# Altium footprint library IC.PcbLib: 31 footprints (part 2 of 2)
Each footprint in its own frame and in the unit in brackets; x right, y up, seen from the top. Pads: shape width x height; smd on the part's side, far side on the other; paste and mask are expansions set on the pad; w line width, h text height; cw(c..) or ccw(c..) is an arc to the next point about the centre after c.
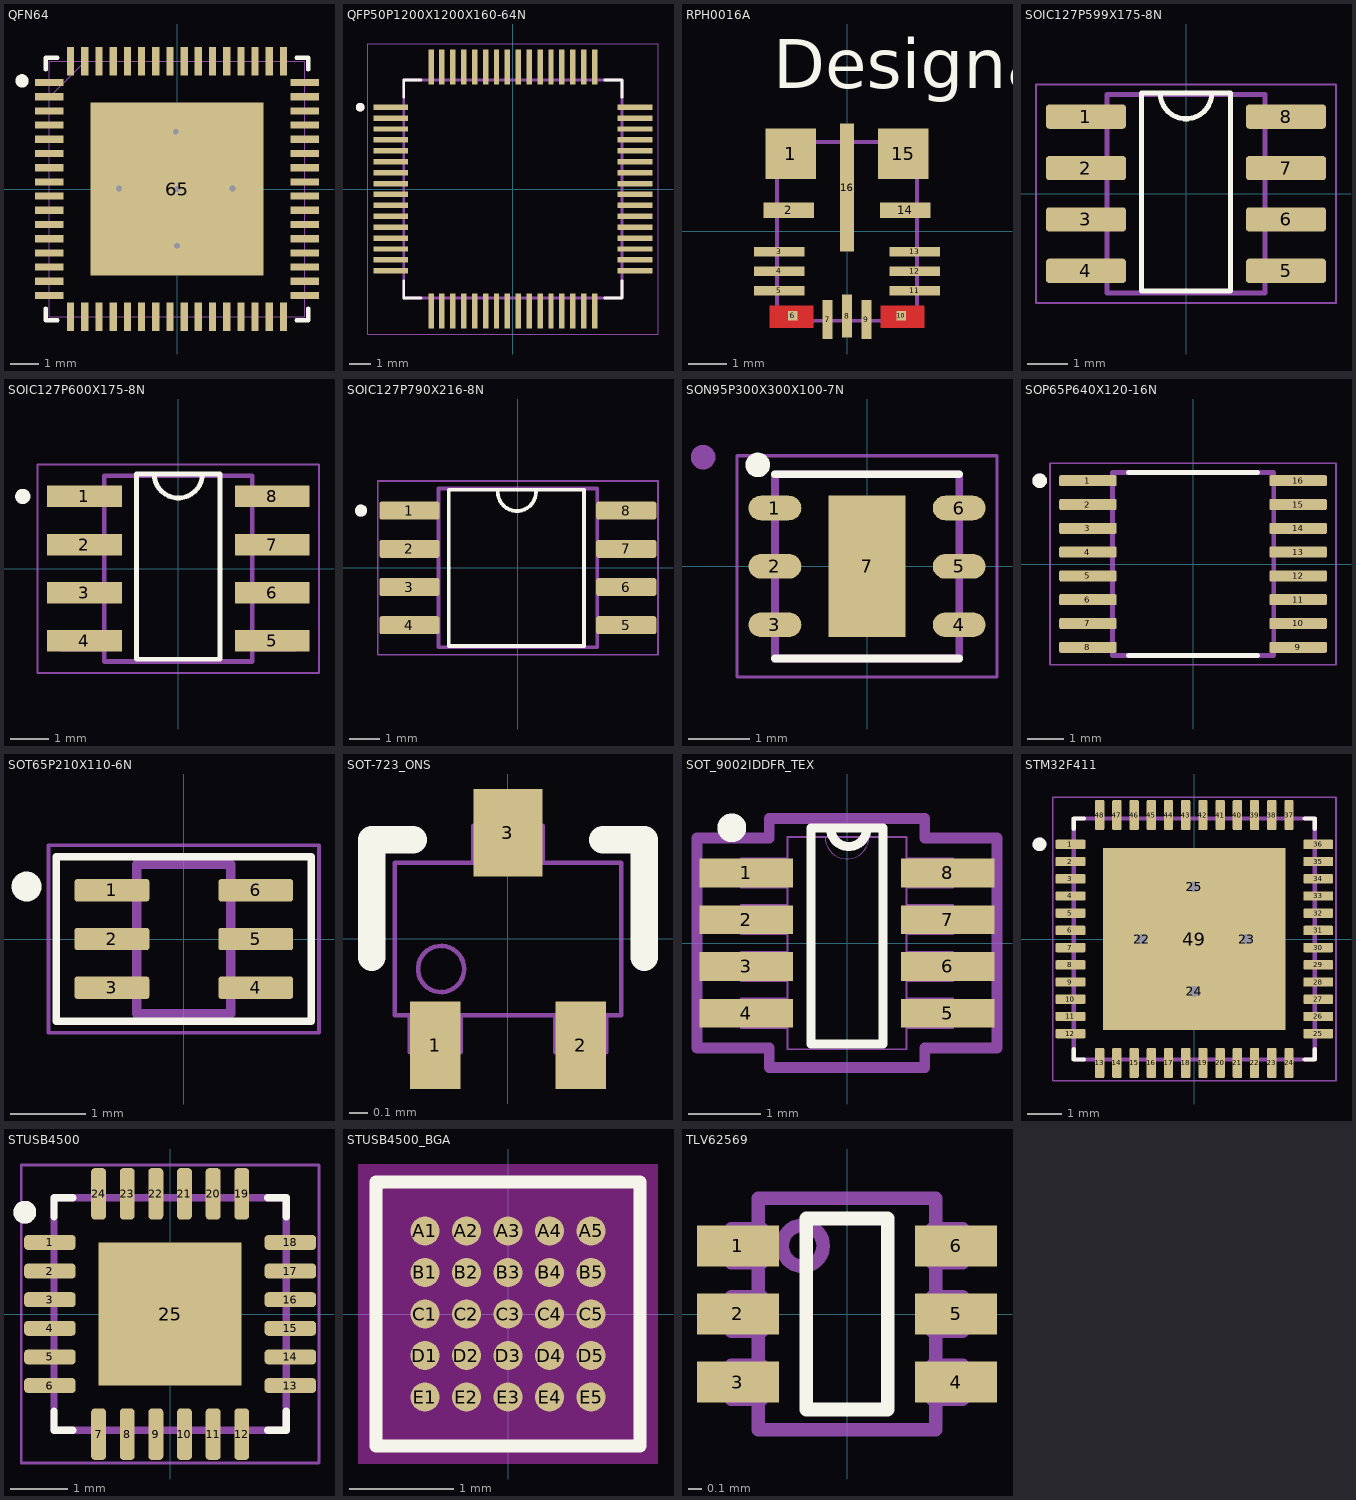
[diagram p1: the footprints below, top view; thin cyan lines are the x and y axes]

## QFN64 [mm]
pads (65):
  rect 1x0.255 smd paste+0 mask+0: 1(-4.5,3.75) 2(-4.5,3.25) 3(-4.5,2.75) 4(-4.5,2.25) 5(-4.5,1.75) 6(-4.5,1.25) 7(-4.5,0.75) 8(-4.5,0.25) 9(-4.5,-0.25) 10(-4.5,-0.75) 11(-4.5,-1.25) 12(-4.5,-1.75) 13(-4.5,-2.25) 14(-4.5,-2.75) 15(-4.5,-3.25) 16(-4.5,-3.75) 33(4.5,-3.75) 34(4.5,-3.25) 35(4.5,-2.75) 36(4.5,-2.25) 37(4.5,-1.75) 38(4.5,-1.25) 39(4.5,-0.75) 40(4.5,-0.25) 41(4.5,0.25) 42(4.5,0.75) 43(4.5,1.25) 44(4.5,1.75) 45(4.5,2.25) 46(4.5,2.75) 47(4.5,3.25) 48(4.5,3.75)
  rect 0.255x1 smd paste+0 mask+0: 17(-3.75,-4.5) 18(-3.25,-4.5) 19(-2.75,-4.5) 20(-2.25,-4.5) 21(-1.75,-4.5) 22(-1.25,-4.5) 23(-0.75,-4.5) 24(-0.25,-4.5) 25(0.25,-4.5) 26(0.75,-4.5) 27(1.25,-4.5) 28(1.75,-4.5) 29(2.25,-4.5) 30(2.75,-4.5) 31(3.25,-4.5) 32(3.75,-4.5) 49(3.75,4.5) 50(3.25,4.5) 51(2.75,4.5) 52(2.25,4.5) 53(1.75,4.5) 54(1.25,4.5) 55(0.75,4.5) 56(0.25,4.5) 57(-0.25,4.5) 58(-0.75,4.5) 59(-1.25,4.5) 60(-1.75,4.5) 61(-2.25,4.5) 62(-2.75,4.5) 63(-3.25,4.5) 64(-3.75,4.5)
  rect 6.096x6.096 smd paste-3.048 mask+0: 65(0,0)
via 0,0 diameter 0.503 hole 0.203
via 0,-2 diameter 0.503 hole 0.203
via -0.047,2.014 diameter 0.503 hole 0.203
via 1.953,0.014 diameter 0.503 hole 0.203
via -2.047,0.014 diameter 0.503 hole 0.203
Top Overlay:
  circle w0.254: c-5.461,3.81 r0.107
  lines w0.152: -4.623,-4.21 -4.623,-4.623 -4.21,-4.623 ; -4.623,4.21 -4.623,4.623 -4.21,4.623 ; 4.21,-4.623 4.623,-4.623 4.623,-4.21 ; 4.21,4.623 4.623,4.623 4.623,4.21
Top Paste:
  region: -1.624,2.948 -2.948,2.948 -2.948,1.624 -1.624,1.624
  region: -1.624,1.424 -2.948,1.424 -2.948,0.1 -1.624,0.1
  region: -1.624,-0.1 -2.948,-0.1 -2.948,-1.424 -1.624,-1.424
  region: -1.624,-1.624 -2.948,-1.624 -2.948,-2.948 -1.624,-2.948
  region: -0.1,2.948 -1.424,2.948 -1.424,1.624 -0.1,1.624
  region: -0.1,1.424 -1.424,1.424 -1.424,0.1 -0.1,0.1
  region: -0.1,-0.1 -1.424,-0.1 -1.424,-1.424 -0.1,-1.424
  region: -0.1,-1.624 -1.424,-1.624 -1.424,-2.948 -0.1,-2.948
  region: 1.424,2.948 0.1,2.948 0.1,1.624 1.424,1.624
  region: 1.424,1.424 0.1,1.424 0.1,0.1 1.424,0.1
  region: 1.424,-0.1 0.1,-0.1 0.1,-1.424 1.424,-1.424
  region: 1.424,-1.624 0.1,-1.624 0.1,-2.948 1.424,-2.948
  region: 2.948,2.948 1.624,2.948 1.624,1.624 2.948,1.624
  region: 2.948,1.424 1.624,1.424 1.624,0.1 2.948,0.1
  region: 2.948,-0.1 1.624,-0.1 1.624,-1.424 2.948,-1.424
  region: 2.948,-1.624 1.624,-1.624 1.624,-2.948 2.948,-2.948
Mechanical 13:
  lines w0.025: -4.496,3.226 -3.226,4.496 ; -4.496,-4.496 4.496,-4.496 4.496,4.496 -4.496,4.496 -4.496,-4.496 ; -4.496,-3.902 -4.496,-3.598 -4.496,-3.902 ; -4.496,-3.402 -4.496,-3.098 -4.496,-3.402 ; -4.496,-2.902 -4.496,-2.598 -4.496,-2.902 ; -4.496,-2.402 -4.496,-2.098 -4.496,-2.402 ; -4.496,-1.902 -4.496,-1.598 -4.496,-1.902 ; -4.496,-1.402 -4.496,-1.098 -4.496,-1.402 ; -4.496,-0.902 -4.496,-0.598 -4.496,-0.902 ; -4.496,-0.402 -4.496,-0.098 -4.496,-0.402 ; -4.496,0.098 -4.496,0.402 -4.496,0.098 ; -4.496,0.598 -4.496,0.902 -4.496,0.598 ; -4.496,1.098 -4.496,1.402 -4.496,1.098 ; -4.496,1.598 -4.496,1.902 -4.496,1.598 ; -4.496,2.098 -4.496,2.402 -4.496,2.098 ; -4.496,2.598 -4.496,2.902 -4.496,2.598 ; -4.496,3.098 -4.496,3.402 -4.496,3.098 ; -4.496,3.598 -4.496,3.902 -4.496,3.598 ; -3.902,-4.496 -3.598,-4.496 -3.902,-4.496 ; -3.902,4.496 -3.598,4.496 -3.902,4.496 ; -3.402,-4.496 -3.098,-4.496 -3.402,-4.496 ; -3.402,4.496 -3.098,4.496 -3.402,4.496 ; -2.902,-4.496 -2.598,-4.496 -2.902,-4.496 ; -2.902,4.496 -2.598,4.496 -2.902,4.496 ; -2.402,-4.496 -2.098,-4.496 -2.402,-4.496 ; -2.402,4.496 -2.098,4.496 -2.402,4.496 ; -1.902,-4.496 -1.598,-4.496 -1.902,-4.496 ; -1.902,4.496 -1.598,4.496 -1.902,4.496 ; -1.402,-4.496 -1.098,-4.496 -1.402,-4.496 ; -1.402,4.496 -1.098,4.496 -1.402,4.496 ; -0.902,-4.496 -0.598,-4.496 -0.902,-4.496 ; -0.902,4.496 -0.598,4.496 -0.902,4.496 ; -0.402,-4.496 -0.098,-4.496 -0.402,-4.496 ; -0.402,4.496 -0.098,4.496 -0.402,4.496 ; 0.098,-4.496 0.402,-4.496 0.098,-4.496 ; 0.098,4.496 0.402,4.496 0.098,4.496 ; 0.598,-4.496 0.902,-4.496 0.598,-4.496 ; 0.598,4.496 0.902,4.496 0.598,4.496 ; 1.098,-4.496 1.402,-4.496 1.098,-4.496 ; 1.098,4.496 1.402,4.496 1.098,4.496 ; 1.598,-4.496 1.902,-4.496 1.598,-4.496 ; 1.598,4.496 1.902,4.496 1.598,4.496 ; 2.098,-4.496 2.402,-4.496 2.098,-4.496 ; 2.098,4.496 2.402,4.496 2.098,4.496 ; 2.598,-4.496 2.902,-4.496 2.598,-4.496 ; 2.598,4.496 2.902,4.496 2.598,4.496 ; 3.098,-4.496 3.402,-4.496 3.098,-4.496 ; 3.098,4.496 3.402,4.496 3.098,4.496 ; 3.598,-4.496 3.902,-4.496 3.598,-4.496 ; 3.598,4.496 3.902,4.496 3.598,4.496 ; 4.496,-3.902 4.496,-3.598 4.496,-3.902 ; 4.496,-3.402 4.496,-3.098 4.496,-3.402 ; 4.496,-2.902 4.496,-2.598 4.496,-2.902 ; 4.496,-2.402 4.496,-2.098 4.496,-2.402 ; 4.496,-1.902 4.496,-1.598 4.496,-1.902 ; 4.496,-1.402 4.496,-1.098 4.496,-1.402 ; 4.496,-0.902 4.496,-0.598 4.496,-0.902 ; 4.496,-0.402 4.496,-0.098 4.496,-0.402 ; 4.496,0.098 4.496,0.402 4.496,0.098 ; 4.496,0.598 4.496,0.902 4.496,0.598 ; 4.496,1.098 4.496,1.402 4.496,1.098 ; 4.496,1.598 4.496,1.902 4.496,1.598 ; 4.496,2.098 4.496,2.402 4.496,2.098 ; 4.496,2.598 4.496,2.902 4.496,2.598 ; 4.496,3.098 4.496,3.402 4.496,3.098 ; 4.496,3.598 4.496,3.902 4.496,3.598
3D body "QFN64_ML_MCH.step": height 0.99, standoff 0, extent -4.496,-4.496 4.496,4.496

## QFP50P1200X1200X160-64N [mm]
height 1.6
pads (64):
  rect 1.6x0.25 smd mask+0.05: 1(-5.6,3.75) 2(-5.6,3.25) 3(-5.6,2.75) 4(-5.6,2.25) 5(-5.6,1.75) 6(-5.6,1.25) 7(-5.6,0.75) 8(-5.6,0.25) 9(-5.6,-0.25) 10(-5.6,-0.75) 11(-5.6,-1.25) 12(-5.6,-1.75) 13(-5.6,-2.25) 14(-5.6,-2.75) 15(-5.6,-3.25) 16(-5.6,-3.75) 33(5.6,-3.75) 34(5.6,-3.25) 35(5.6,-2.75) 36(5.6,-2.25) 37(5.6,-1.75) 38(5.6,-1.25) 39(5.6,-0.75) 40(5.6,-0.25) 41(5.6,0.25) 42(5.6,0.75) 43(5.6,1.25) 44(5.6,1.75) 45(5.6,2.25) 46(5.6,2.75) 47(5.6,3.25) 48(5.6,3.75)
  rect 0.25x1.6 smd mask+0.05: 17(-3.75,-5.6) 18(-3.25,-5.6) 19(-2.75,-5.6) 20(-2.25,-5.6) 21(-1.75,-5.6) 22(-1.25,-5.6) 23(-0.75,-5.6) 24(-0.25,-5.6) 25(0.25,-5.6) 26(0.75,-5.6) 27(1.25,-5.6) 28(1.75,-5.6) 29(2.25,-5.6) 30(2.75,-5.6) 31(3.25,-5.6) 32(3.75,-5.6) 49(3.75,5.6) 50(3.25,5.6) 51(2.75,5.6) 52(2.25,5.6) 53(1.75,5.6) 54(1.25,5.6) 55(0.75,5.6) 56(0.25,5.6) 57(-0.25,5.6) 58(-0.75,5.6) 59(-1.25,5.6) 60(-1.75,5.6) 61(-2.25,5.6) 62(-2.75,5.6) 63(-3.25,5.6) 64(-3.75,5.6)
Top Overlay:
  circle w0.2: c-7,3.75 r0.1
  lines w0.127: -5,-4.21 -5,-5 -4.21,-5 ; -5,4.21 -5,5 -4.21,5 ; 4.21,-5 5,-5 5,-4.21 ; 4.21,5 5,5 5,4.21
Mechanical 13:
  circle w0.2: c-7,3.75 r0.1
  lines w0.127: -5,-5 -5,5 5,5 5,-5 -5,-5
Mechanical 15:
  lines w0.05: -6.655,-6.655 6.655,-6.655 6.655,6.655 -6.655,6.655 -6.655,-6.655
3D body "step_temp.STEP": height 1.6, standoff 0, extent -6,-6 6,6

## RPH0016A [mm]
pads (16):
  rect 1.3x1.3 smd mask+0.051: 1(-1.45,2) 15(1.45,2)
  rect 1.3x0.4 smd paste+0 mask+0.051: 2(-1.5,0.55) 14(1.5,0.55)
  rect 1.3x0.25 smd paste+0 mask+0.04: 3(-1.75,-0.525) 4(-1.75,-1.025) 5(-1.75,-1.525) 11(1.75,-1.525) 12(1.75,-1.025) 13(1.75,-0.525)
  rect 0.25x0.25 smd paste-0.112 mask+0.051: 6(-1.4,-2.175) 10(1.4,-2.175)
  rect 0.25x1 smd paste+0 mask+0.04: 7(-0.5,-2.27) 9(0.5,-2.27)
  rect 0.25x1.1 smd paste+0 mask+0.04: 8(0,-2.18)
  rect 0.35x3.3 smd paste+0 mask+0.051: 16(0,1.13)
Top Layer:
  rectangle: -2.001,-2.486 -0.858,-1.914
  rectangle: 0.858,-2.486 2.001,-1.914
Top Overlay:
  text "Designator10" at -1.905,3.683 h1.27
Mechanical 13:
  circle w0.1: c-1.2,1.7 r0.3
  lines w0.1: -1.8,-2.3 -1.8,2.3 1.8,2.3 1.8,-2.3 -1.8,-2.3
3D body "RPH0016B.stp": height 1, standoff 0, extent -1.75,-2.25 1.75,2.25

## SOIC127P599X175-8N [mm]
pads (8):
  rrect25% 1.97x0.6 smd paste+0 mask+0.102: 1(-2.47,1.905) 2(-2.47,0.635) 3(-2.47,-0.635) 4(-2.47,-1.905) 5(2.47,-1.905) 6(2.47,-0.635) 7(2.47,0.635) 8(2.47,1.905)
Top Overlay:
  lines w0.127: -0.637,2.488 ccw(c0,2.488) 0.636,2.488 ; -1.1,-2.4 -1.1,2.488 1.1,2.488 1.1,-2.4 -1.1,-2.4
Mechanical 13:
  lines w0.127: -1.95,-2.452 -1.95,2.452 1.95,2.452 1.95,-2.452 -1.95,-2.452
Mechanical 15:
  lines w0.05: -3.705,-2.702 -3.705,2.702 3.705,2.702 3.705,-2.702 -3.705,-2.702
3D body "step_temp.STEP": height 1.75, standoff 0, extent -2.995,-2.452 2.995,2.452

## SOIC127P600X175-8N [mm]
pads (8):
  rect 1.97x0.57 smd: 1(-2.475,1.905) 2(-2.475,0.635) 3(-2.475,-0.635) 4(-2.475,-1.905) 5(2.475,-1.905) 6(2.475,-0.635) 7(2.475,0.635) 8(2.475,1.905)
Top Overlay:
  circle w0.2: c-4.1,1.905 r0.1
  lines w0.127: -0.637,2.5 ccw(c0,2.5) 0.636,2.5 ; -1.1,-2.388 1.1,-2.388 1.1,2.5 -1.1,2.5 -1.1,-2.388
Mechanical 13:
  lines w0: -3.099,-2.159 -2.007,-2.159 -2.007,-1.651 -3.099,-1.651 -3.099,-2.159 ; -3.099,-0.889 -2.007,-0.889 -2.007,-0.381 -3.099,-0.381 -3.099,-0.889 ; -3.099,0.381 -2.007,0.381 -2.007,0.889 -3.099,0.889 -3.099,0.381 ; -3.099,1.651 -2.007,1.651 -2.007,2.159 -3.099,2.159 -3.099,1.651 ; 2.007,-2.159 3.099,-2.159 3.099,-1.651 2.007,-1.651 2.007,-2.159 ; 2.007,-0.889 3.099,-0.889 3.099,-0.381 2.007,-0.381 2.007,-0.889 ; 2.007,0.381 3.099,0.381 3.099,0.889 2.007,0.889 2.007,0.381 ; 2.007,1.651 3.099,1.651 3.099,2.159 2.007,2.159 2.007,1.651
  lines w0.127: -1.95,-2.45 -1.95,2.45 1.95,2.45 1.95,-2.45 -1.95,-2.45
Mechanical 15:
  lines w0.05: -3.71,-2.75 -3.71,2.75 3.71,2.75 3.71,-2.75 -3.71,-2.75
3D body "LM358DT.STEP": height 1.7, standoff -0.05, extent -3.127,-2.45 2.873,2.45

## SOIC127P790X216-8N [mm]
height 2.16
pads (8):
  rrect25% 2x0.6 smd: 1(-3.605,1.905) 2(-3.605,0.635) 3(-3.605,-0.635) 4(-3.605,-1.905) 5(3.605,-1.905) 6(3.605,-0.635) 7(3.605,0.635) 8(3.605,1.905)
Top Overlay:
  circle w0.2: c-5.215,1.905 r0.1
  lines w0.127: -0.669,2.529 ccw(c-0.033,2.529) 0.604,2.529 ; -2.3,-2.6 2.2,-2.6 2.2,2.6 -2.3,2.6 -2.3,-2.6
Mechanical 13:
  circle w0.2: c-5.215,1.905 r0.1
  lines w0.127: -2.64,-2.64 2.64,-2.64 2.64,2.64 -2.64,2.64 -2.64,-2.64
Mechanical 15:
  lines w0.05: -4.66,-2.89 4.66,-2.89 4.66,2.89 -4.66,2.89 -4.66,-2.89
3D body "step_temp.STEP": height 2.16, standoff 0, extent -3.95,-2.64 3.95,2.64

## SON95P300X300X100-7N [mm]
pads (7):
  rrect100% 0.86x0.4 smd mask+0.07: 1(-1.5,0.95) 2(-1.5,0) 3(-1.5,-0.95) 4(1.5,-0.95) 5(1.5,0) 6(1.5,0.95)
  rect 1.25x2.3 smd paste-2 mask+0.07: 7(0,0)
Top Overlay:
  circle w0.2: c-1.778,1.651 r0.1
  lines w0.127: -1.5,-1.5 1.5,-1.5 ; -1.5,1.5 1.5,1.5
Top Paste:
  region: 0.51,-0.75 -0.51,-0.75 -0.51,0.75 0.51,0.75
Mechanical 13:
  circle w0.2: c-2.667,1.778 r0.1
  lines w0.127: -1.5,-1.5 -1.5,1.5 1.5,1.5 1.5,-1.5 -1.5,-1.5
Mechanical 15:
  lines w0.05: -2.115,-1.8 -2.115,1.8 2.115,1.8 2.115,-1.8 -2.115,-1.8
3D body "LD39200PU33R.step": height 0.99, standoff -0.01, extent -1.5,-1.5 1.5,1.5

## SOP65P640X120-16N [mm]
pads (16):
  rrect25% 1.57x0.3 smd mask+0.07: 1(-2.87,2.275) 2(-2.87,1.625) 3(-2.87,0.975) 4(-2.87,0.325) 5(-2.87,-0.325) 6(-2.87,-0.975) 7(-2.87,-1.625) 8(-2.87,-2.275) 9(2.87,-2.275) 10(2.87,-1.625) 11(2.87,-0.975) 12(2.87,-0.325) 13(2.87,0.325) 14(2.87,0.975) 15(2.87,1.625) 16(2.87,2.275)
Top Overlay:
  circle w0.2: c-4.19,2.275 r0.1
  lines w0.127: -1.765,-2.5 1.765,-2.5 ; -1.765,2.5 1.765,2.5
Mechanical 13:
  circle w0.2: c-4.19,2.275 r0.1
  lines w0.127: -2.2,-2.5 2.2,-2.5 2.2,2.5 -2.2,2.5 -2.2,-2.5
Mechanical 15:
  lines w0.05: -3.905,-2.75 3.905,-2.75 3.905,2.75 -3.905,2.75 -3.905,-2.75
3D body "step_temp.STEP": height 1.2, standoff 0, extent -3.2,-2.5 3.2,2.5

## SOT65P210X110-6N [mm]
pads (6):
  rrect25% 1x0.3 smd paste+0 mask+0.06: 1(-0.96,0.65) 2(-0.96,0) 3(-0.96,-0.65) 4(0.96,-0.65) 5(0.96,0) 6(0.96,0.65)
Top Overlay:
  circle w0.2: c-2.1,0.7 r0.1
  lines w0.1: -1.7,-1.1 1.7,-1.1 1.7,1.1 -1.7,1.1 -1.7,-1.1
Mechanical 13:
  lines w0.127: -0.625,-1 0.625,-1 0.625,1 -0.625,1 -0.625,-1
Mechanical 15:
  lines w0.05: -1.805,-1.25 1.805,-1.25 1.805,1.25 -1.805,1.25 -1.805,-1.25
3D body "step_temp.STEP": height 1.1, standoff 0, extent -1.05,-1 1.05,1

## SOT-723_ONS [mil]
pads (3):
  rect 11x19 smd paste+0 mask+0: 1(-15.75,-23) 2(15.75,-23)
  rect 15x19 smd paste+0 mask+0: 3(0,23)
Top Overlay:
  lines w6: -29.5,-3.94 -29.5,21.5 -20.6,21.5 ; 20.6,21.5 29.5,21.5 29.5,-3.94
Mechanical 13:
  circle w1: c-14.5,-6.5 r5
  lines w1: -24.5,-16.5 -24.5,16.5 24.5,16.5 24.5,-16.5 -24.5,-16.5 ; -21.25,-24.5 -10.25,-24.5 -10.25,-16.5 -21.25,-16.5 -21.25,-24.5 ; -7.5,16.5 -7.5,24.5 7.5,24.5 7.5,16.5 -7.5,16.5 ; 10.25,-24.5 21.25,-24.5 21.25,-16.5 10.25,-16.5 10.25,-24.5
3D body "SOT723.step": height 21.65, standoff 0, extent -23.62,-23.62 23.62,23.63

## SOT_9002IDDFR_TEX [mm]
pads (8):
  rect 1.3x0.4 smd paste+0 mask+0.07: 1(-1.4,0.975) 2(-1.4,0.325) 3(-1.4,-0.325) 4(-1.4,-0.975) 5(1.4,-0.975) 6(1.4,-0.325) 7(1.4,0.325) 8(1.4,0.975)
Top Overlay:
  circle w0.2: c-1.6,1.6 r0.1
  lines w0.127: -0.226,1.59 ccw(c0.024,1.59) 0.274,1.59 ; -0.5,-1.4 0.5,-1.4 0.5,1.6 -0.5,1.6 -0.5,-1.4
Mechanical 13:
  lines w0: -0.305,1.473 ccw(c0,1.473) 0.305,1.473
  lines w0.025: -1.473,-1.178 -1.473,-0.772 -0.826,-0.772 -0.826,-1.178 -1.473,-1.178 ; -1.473,-0.528 -1.473,-0.122 -0.826,-0.122 -0.826,-0.528 -1.473,-0.528 ; -1.473,0.122 -1.473,0.528 -0.826,0.528 -0.826,0.122 -1.473,0.122 ; -1.473,0.772 -1.473,1.178 -0.826,1.178 -0.826,0.772 -1.473,0.772 ; -0.826,-1.473 0.826,-1.473 0.826,1.473 -0.826,1.473 -0.826,-1.473 ; 0.826,-1.178 0.826,-0.772 1.473,-0.772 1.473,-1.178 0.826,-1.178 ; 0.826,-0.528 0.826,-0.122 1.473,-0.122 1.473,-0.528 0.826,-0.528 ; 0.826,0.122 0.826,0.528 1.473,0.528 1.473,0.122 0.826,0.122 ; 0.826,0.772 0.826,1.178 1.473,1.178 1.473,0.772 0.826,0.772
  text "*" at -0.762,0.127 h1.27
Mechanical 15:
  lines w0.152: -2.083,-1.458 -2.083,1.458 -1.079,1.458 -1.079,1.727 1.079,1.727 1.079,1.458 2.083,1.458 2.083,-1.458 1.079,-1.458 1.079,-1.727 -1.079,-1.727 -1.079,-1.458 -2.083,-1.458
3D body "SOT_9002IDDFR_TEX.step": height 1.09, standoff 0, extent -1.473,-1.473 1.473,1.473

## STM32F411 [mm] "fdasfdasfsd"
pads (53):
  rrect25% 0.87x0.27 smd mask+0.076: 1(-3.6,2.75) 2(-3.6,2.25) 3(-3.6,1.75) 4(-3.6,1.25) 5(-3.6,0.75) 6(-3.6,0.25) 7(-3.6,-0.25) 8(-3.6,-0.75) 9(-3.6,-1.25) 10(-3.6,-1.75) 11(-3.6,-2.25) 12(-3.6,-2.75) 25(3.6,-2.75) 26(3.6,-2.25) 27(3.6,-1.75) 28(3.6,-1.25) 29(3.6,-0.75) 30(3.6,-0.25) 31(3.6,0.25) 32(3.6,0.75) 33(3.6,1.25) 34(3.6,1.75) 35(3.6,2.25) 36(3.6,2.75)
  rrect25% 0.27x0.87 smd mask+0.076: 13(-2.75,-3.6) 14(-2.25,-3.6) 15(-1.75,-3.6) 16(-1.25,-3.6) 17(-0.75,-3.6) 18(-0.25,-3.6) 19(0.25,-3.6) 20(0.75,-3.6) 21(1.25,-3.6) 22(1.75,-3.6) 23(2.25,-3.6) 24(2.75,-3.6) 37(2.75,3.6) 38(2.25,3.6) 39(1.75,3.6) 40(1.25,3.6) 41(0.75,3.6) 42(0.25,3.6) 43(-0.25,3.6) 44(-0.75,3.6) 45(-1.25,3.6) 46(-1.75,3.6) 47(-2.25,3.6) 48(-2.75,3.6)
  round 0.6 hole 0.305 mask+0: 22(-1.524,0) 23(1.524,0) 24(0,-1.524) 25(0,1.524)
  rect 5.3x5.3 smd paste-4: 49(0,0)
Top Overlay:
  circle w0.2: c-4.5,2.75 r0.1
  lines w0.127: -3.5,-3.205 -3.5,-3.5 -3.205,-3.5 ; -3.5,3.205 -3.5,3.5 -3.205,3.5 ; 3.205,-3.5 3.5,-3.5 3.5,-3.205 ; 3.205,3.5 3.5,3.5 3.5,3.205
Top Paste:
  region: -0.51,0.51 -2.29,0.51 -2.29,2.29 -0.51,2.29
  region: 2.29,0.51 0.51,0.51 0.51,2.29 2.29,2.29
  region: -0.51,-2.29 -2.29,-2.29 -2.29,-0.51 -0.51,-0.51
  region: 2.29,-2.29 0.51,-2.29 0.51,-0.51 2.29,-0.51
Mechanical 13:
  circle w0.2: c-4.5,2.75 r0.1
  lines w0.127: -3.5,-3.5 3.5,-3.5 3.5,3.5 -3.5,3.5 -3.5,-3.5
Mechanical 15:
  lines w0.05: -4.115,-4.115 4.115,-4.115 4.115,4.115 -4.115,4.115 -4.115,-4.115
3D body "STM32F411CEU6.STEP": height 0.6, standoff 0, extent -3.5,-3.5 3.5,3.5

## STUSB4500 [mm]
pads (25):
  rrect50% 0.9x0.26 smd mask+0.07: 1(-2.1,1.25) 2(-2.1,0.75) 3(-2.1,0.25) 4(-2.1,-0.25) 5(-2.1,-0.75) 6(-2.1,-1.25) 13(2.1,-1.25) 14(2.1,-0.75) 15(2.1,-0.25) 16(2.1,0.25) 17(2.1,0.75) 18(2.1,1.25)
  rrect50% 0.26x0.9 smd mask+0.07: 7(-1.25,-2.1) 8(-0.75,-2.1) 9(-0.25,-2.1) 10(0.25,-2.1) 11(0.75,-2.1) 12(1.25,-2.1) 19(1.25,2.1) 20(0.75,2.1) 21(0.25,2.1) 22(-0.25,2.1) 23(-0.75,2.1) 24(-1.25,2.1)
  rect 2.5x2.5 smd paste-2 mask+0.07: 25(0,0)
Top Overlay:
  circle w0.2: c-2.54,1.778 r0.1
  lines w0.127: -2.03,-1.7 -2.03,-2.03 -1.7,-2.03 ; -2.03,1.7 -2.03,2.03 -1.7,2.03 ; 1.7,-2.03 2.03,-2.03 2.03,-1.7 ; 1.7,2.03 2.03,2.03 2.03,1.7
Top Paste:
  region: 1.09,0.13 0.13,0.13 0.13,1.09 1.09,1.09
  region: -0.13,0.13 -1.09,0.13 -1.09,1.09 -0.13,1.09
  region: -0.13,-1.09 -1.09,-1.09 -1.09,-0.13 -0.13,-0.13
  region: 1.09,-1.09 0.13,-1.09 0.13,-0.13 1.09,-0.13
Mechanical 13:
  circle w0.2: c-2.54,1.778 r0.1
  lines w0.127: -2.03,-2.03 2.03,-2.03 2.03,2.03 -2.03,2.03 -2.03,-2.03
Mechanical 15:
  lines w0.05: -2.6,-2.6 2.6,-2.6 2.6,2.6 -2.6,2.6 -2.6,-2.6
3D body "step_temp.STEP": height 1, standoff 0, extent -2,-2 2,2

## STUSB4500_BGA [mil]
pads (25):
  round 11 smd paste+0 mask+0: A1(-31.5,31.5) A2(-15.75,31.5) A3(0,31.5) A4(15.75,31.5) A5(31.5,31.5) B1(-31.5,15.75) B2(-15.75,15.75) B3(0,15.75) B4(15.75,15.75) B5(31.5,15.75) C1(-31.5,0) C2(-15.75,0) C3(0,0) C4(15.75,0) C5(31.5,0) D1(-31.5,-15.75) D2(-15.75,-15.75) D3(0,-15.75) D4(15.75,-15.75) D5(31.5,-15.75) E1(-31.5,-31.5) E2(-15.75,-31.5) E3(0,-31.5) E4(15.75,-31.5) E5(31.5,-31.5)
Top Overlay:
  lines w5: -50,-50 50,-50 50,50 -50,50 -50,-50
Keep-Out Layer:
  region: -56.88,-56.88 -56.88,56.88 56.88,56.88 56.88,-56.88
Mechanical 13:
  lines w1: -51.5,43.62 -43.62,51.5 ; -51.5,-51.5 51.5,-51.5 51.5,51.5 -51.5,51.5 -51.5,-51.5
3D body "BGA_0LBJR_STM.step": height 21.1, standoff 0.01, extent -51.5,-51.5 51.5,51.5

## TLV62569 [mm]
pads (6):
  rect 0.6x0.3 smd paste+0 mask+0.051: 1(-0.8,0.5) 2(-0.8,0) 3(-0.8,-0.5) 4(0.8,-0.5) 5(0.8,0) 6(0.8,0.5)
Top Overlay:
  lines w0.1: -0.3,-0.7 0.3,-0.7 0.3,0.7 -0.3,0.7 -0.3,-0.7
Mechanical 13:
  circle w0.1: c-0.325,0.5 r0.15
  lines w0.1: -0.65,-0.625 -0.65,-0.85 0.65,-0.85 0.65,-0.625 ; -0.65,-0.375 -0.65,-0.125 ; -0.65,0.125 -0.65,0.375 ; -0.65,0.625 -0.65,0.85 0.65,0.85 0.65,0.625 ; 0.65,-0.375 0.65,0.375 ; -0.85,-0.625 -0.85,-0.375 -0.627,-0.375 -0.627,-0.625 -0.85,-0.625 ; -0.85,-0.125 -0.627,-0.125 -0.627,0.125 -0.85,0.125 -0.85,-0.125 ; -0.85,0.375 -0.85,0.625 -0.627,0.625 -0.627,0.375 -0.85,0.375 ; 0.627,-0.625 0.627,-0.375 0.85,-0.375 0.85,-0.625 0.627,-0.625 ; 0.627,-0.125 0.85,-0.125 0.85,0.125 0.627,0.125 0.627,-0.125 ; 0.627,0.375 0.627,0.625 0.85,0.625 0.85,0.375 0.627,0.375
3D body "DRL0006A.stp": height 0.6, standoff 0, extent -0.8,-0.783 0.8,0.783